# Altium footprint library 400236.PcbLib: 96 footprints (part 5 of 6)
Each footprint in its own frame and in the unit in brackets; x right, y up, seen from the top. Pads: shape width x height; smd on the part's side, far side on the other; paste and mask are expansions set on the pad; w line width, h text height; cw(c..) or ccw(c..) is an arc to the next point about the centre after c.
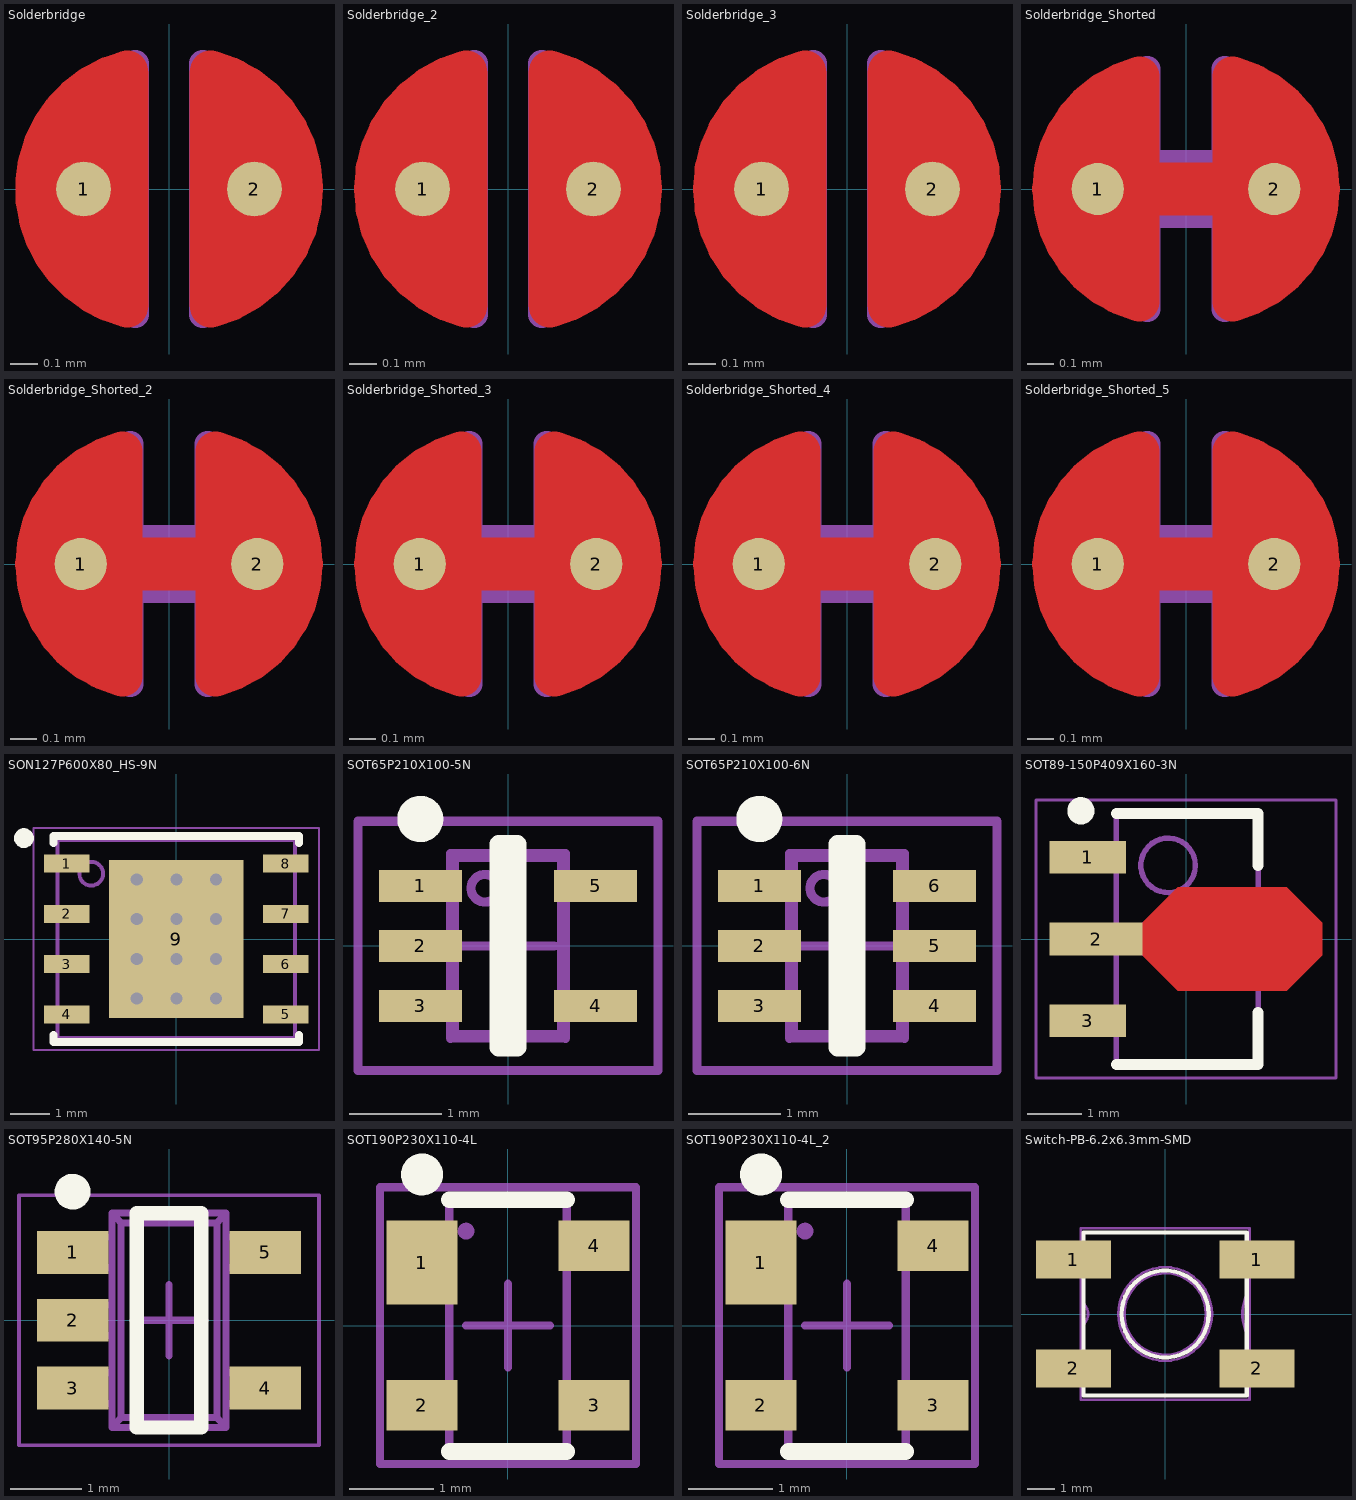
[diagram p4: the footprints below, top view; thin cyan lines are the x and y axes]

## Solderbridge [mm]
pads (2):
  round 0.2 smd paste-10: 1(-0.312,0) 2(0.312,0)
Top Layer:
  region: 0.077,0.432 0.152,0.505 0.271,0.467 0.335,0.424 0.409,0.351 0.462,0.292 0.521,0.193 0.549,0.099 0.544,-0.122 0.518,-0.193 0.434,-0.33 0.351,-0.411 0.259,-0.469 0.157,-0.5 0.107,-0.483 0.077,-0.43
  region: -0.077,-0.432 -0.152,-0.505 -0.271,-0.467 -0.335,-0.424 -0.409,-0.351 -0.462,-0.292 -0.521,-0.193 -0.549,-0.099 -0.544,0.122 -0.518,0.193 -0.434,0.33 -0.351,0.411 -0.259,0.469 -0.157,0.5 -0.107,0.483 -0.077,0.43
  lines w0.152: -0.153,-0.431 cw(c-0.042,0) -0.473,-0.112 cw(c-0.042,0) -0.153,0.431 ; 0.153,-0.431 ccw(c0.042,0) 0.482,-0.068 ccw(c0.042,0) 0.153,0.431
Top Solder:
  circle w0.61: c-0.003,0 r0.279
Mechanical 7:
  lines w0.1: -0.123,-0.459 cw(c-0.042,0) -0.123,0.459 -0.123,-0.459 ; 0.123,-0.459 ccw(c0.042,0) 0.123,0.459 0.123,-0.459
  text ".Designator" at -0.635,0.635 h0.38

## Solderbridge_2 [mm]
pads (2):
  round 0.2 smd paste-10: 1(-0.312,0) 2(0.312,0)
Top Layer:
  region: 0.077,0.432 0.152,0.505 0.271,0.467 0.335,0.424 0.409,0.351 0.462,0.292 0.521,0.193 0.549,0.099 0.544,-0.122 0.518,-0.193 0.434,-0.33 0.351,-0.411 0.259,-0.469 0.157,-0.5 0.107,-0.483 0.077,-0.43
  region: -0.077,-0.432 -0.152,-0.505 -0.271,-0.467 -0.335,-0.424 -0.409,-0.351 -0.462,-0.292 -0.521,-0.193 -0.549,-0.099 -0.544,0.122 -0.518,0.193 -0.434,0.33 -0.351,0.411 -0.259,0.469 -0.157,0.5 -0.107,0.483 -0.077,0.43
  lines w0.152: -0.153,-0.431 cw(c-0.042,0) -0.153,0.431 ; 0.153,-0.431 ccw(c0.042,0) 0.153,0.431
Top Solder:
  circle w0.61: c-0.003,0 r0.279
Mechanical 7:
  lines w0.1: -0.123,-0.459 cw(c-0.042,0) -0.123,0.459 -0.123,-0.459 ; 0.123,-0.459 ccw(c0.042,0) 0.123,0.459 0.123,-0.459
  text ".Designator" at -0.441,-0.89 h0.3

## Solderbridge_3 [mm]
pads (2):
  round 0.2 smd paste-10: 1(-0.312,0) 2(0.312,0)
Top Layer:
  region: 0.077,0.432 0.152,0.505 0.271,0.467 0.335,0.424 0.409,0.351 0.462,0.292 0.521,0.193 0.549,0.099 0.544,-0.122 0.518,-0.193 0.434,-0.33 0.351,-0.411 0.259,-0.469 0.157,-0.5 0.107,-0.483 0.077,-0.43
  region: -0.077,-0.432 -0.152,-0.505 -0.271,-0.467 -0.335,-0.424 -0.409,-0.351 -0.462,-0.292 -0.521,-0.193 -0.549,-0.099 -0.544,0.122 -0.518,0.193 -0.434,0.33 -0.351,0.411 -0.259,0.469 -0.157,0.5 -0.107,0.483 -0.077,0.43
  lines w0.152: -0.153,-0.431 cw(c-0.042,0) -0.153,0.431 ; 0.153,-0.431 ccw(c0.042,0) 0.153,0.431
Top Solder:
  circle w0.61: c-0.003,0 r0.279
Mechanical 7:
  lines w0.1: -0.123,-0.459 cw(c-0.042,0) -0.123,0.459 -0.123,-0.459 ; 0.123,-0.459 ccw(c0.042,0) 0.123,0.459 0.123,-0.459
  text ".Designator" at -0.467,0.634 h0.3

## Solderbridge_Shorted [mm]
pads (2):
  round 0.2 smd paste-10: 1(-0.338,0) 2(0.338,0)
Top Layer:
  region: -0.102,-0.432 -0.178,-0.505 -0.296,-0.467 -0.361,-0.424 -0.434,-0.351 -0.488,-0.292 -0.546,-0.193 -0.574,-0.099 -0.569,0.122 -0.544,0.193 -0.46,0.33 -0.376,0.411 -0.284,0.469 -0.183,0.5 -0.132,0.483 -0.102,0.43
  region: 0.102,0.432 0.178,0.505 0.296,0.467 0.361,0.424 0.434,0.351 0.488,0.292 0.546,0.193 0.574,0.099 0.569,-0.122 0.544,-0.193 0.46,-0.33 0.376,-0.411 0.284,-0.469 0.183,-0.5 0.132,-0.483 0.102,-0.43
  lines w0.152: -0.178,-0.431 cw(c-0.068,0) -0.178,0.431 ; 0.178,-0.431 ccw(c0.068,0) 0.178,0.431
  lines w0.203: -0.338,0 0.338,0
Top Solder:
  circle w0.61: c0.028,0 r0.279
  circle w0.61: c-0.028,0 r0.279
Mechanical 7:
  lines w0.1: -0.148,-0.459 cw(c-0.067,0) -0.148,0.459 -0.148,0.1 0.148,0.1 0.148,0.459 cw(c0.067,0) 0.148,-0.459 0.148,-0.1 -0.148,-0.1 -0.148,-0.459
  text ".Designator" at 0.635,-0.152 h0.3

## Solderbridge_Shorted_2 [mm]
pads (2):
  round 0.2 smd paste-10: 1(-0.338,0) 2(0.338,0)
Top Layer:
  region: -0.102,-0.432 -0.178,-0.505 -0.296,-0.467 -0.361,-0.424 -0.434,-0.351 -0.488,-0.292 -0.546,-0.193 -0.574,-0.099 -0.569,0.122 -0.544,0.193 -0.46,0.33 -0.376,0.411 -0.284,0.469 -0.183,0.5 -0.132,0.483 -0.102,0.43
  region: 0.102,0.432 0.178,0.505 0.296,0.467 0.361,0.424 0.434,0.351 0.488,0.292 0.546,0.193 0.574,0.099 0.569,-0.122 0.544,-0.193 0.46,-0.33 0.376,-0.411 0.284,-0.469 0.183,-0.5 0.132,-0.483 0.102,-0.43
  lines w0.152: -0.178,-0.431 cw(c-0.068,0) -0.178,0.431 ; 0.178,-0.431 ccw(c0.068,0) 0.178,0.431
  lines w0.203: -0.338,0 0.338,0
Top Solder:
  circle w0.61: c0.028,0 r0.279
  circle w0.61: c-0.028,0 r0.279
Mechanical 7:
  lines w0.1: -0.148,-0.459 cw(c-0.067,0) -0.148,0.459 -0.148,0.1 0.148,0.1 0.148,0.459 cw(c0.067,0) 0.148,-0.459 0.148,-0.1 -0.148,-0.1 -0.148,-0.459
  text ".Designator" at 0.559,-0.559 h0.3

## Solderbridge_Shorted_3 [mm]
pads (2):
  round 0.2 smd paste-10: 1(-0.338,0) 2(0.338,0)
Top Layer:
  region: -0.102,-0.432 -0.178,-0.505 -0.296,-0.467 -0.361,-0.424 -0.434,-0.351 -0.488,-0.292 -0.546,-0.193 -0.574,-0.099 -0.569,0.122 -0.544,0.193 -0.46,0.33 -0.376,0.411 -0.284,0.469 -0.183,0.5 -0.132,0.483 -0.102,0.43
  region: 0.102,0.432 0.178,0.505 0.296,0.467 0.361,0.424 0.434,0.351 0.488,0.292 0.546,0.193 0.574,0.099 0.569,-0.122 0.544,-0.193 0.46,-0.33 0.376,-0.411 0.284,-0.469 0.183,-0.5 0.132,-0.483 0.102,-0.43
  lines w0.152: -0.178,-0.431 cw(c-0.068,0) -0.178,0.431 ; 0.178,-0.431 ccw(c0.068,0) 0.178,0.431
  lines w0.203: -0.338,0 0.338,0
Top Solder:
  circle w0.61: c0.028,0 r0.279
  circle w0.61: c-0.028,0 r0.279
Mechanical 7:
  lines w0.1: -0.148,-0.459 cw(c-0.067,0) -0.148,0.459 -0.148,0.1 0.148,0.1 0.148,0.459 cw(c0.067,0) 0.148,-0.459 0.148,-0.1 -0.148,-0.1 -0.148,-0.459
  text ".Designator" at 0.381,-0.559 h0.3

## Solderbridge_Shorted_4 [mm]
pads (2):
  round 0.2 smd paste-10: 1(-0.338,0) 2(0.338,0)
Top Layer:
  region: -0.102,-0.432 -0.178,-0.505 -0.296,-0.467 -0.361,-0.424 -0.434,-0.351 -0.488,-0.292 -0.546,-0.193 -0.574,-0.099 -0.569,0.122 -0.544,0.193 -0.46,0.33 -0.376,0.411 -0.284,0.469 -0.183,0.5 -0.132,0.483 -0.102,0.43
  region: 0.102,0.432 0.178,0.505 0.296,0.467 0.361,0.424 0.434,0.351 0.488,0.292 0.546,0.193 0.574,0.099 0.569,-0.122 0.544,-0.193 0.46,-0.33 0.376,-0.411 0.284,-0.469 0.183,-0.5 0.132,-0.483 0.102,-0.43
  lines w0.152: -0.178,-0.431 cw(c-0.068,0) -0.512,0 cw(c-0.068,0) -0.178,0.431 ; 0.178,-0.431 ccw(c0.068,0) 0.178,0.431
  lines w0.203: -0.338,0 0.338,0
Top Solder:
  circle w0.61: c0.028,0 r0.279
  circle w0.61: c-0.028,0 r0.279
Mechanical 7:
  lines w0.1: -0.148,-0.459 cw(c-0.067,0) -0.148,0.459 -0.148,0.1 0.148,0.1 0.148,0.459 cw(c0.067,0) 0.148,-0.459 0.148,-0.1 -0.148,-0.1 -0.148,-0.459
  text ".Designator" at -0.635,0.635 h0.38

## Solderbridge_Shorted_5 [mm]
pads (2):
  round 0.2 smd paste-10: 1(-0.338,0) 2(0.338,0)
Top Layer:
  region: 0.102,0.432 0.178,0.505 0.296,0.467 0.361,0.424 0.434,0.351 0.488,0.292 0.546,0.193 0.574,0.099 0.569,-0.122 0.544,-0.193 0.46,-0.33 0.376,-0.411 0.284,-0.469 0.183,-0.5 0.132,-0.483 0.102,-0.43
  region: -0.102,-0.432 -0.178,-0.505 -0.296,-0.467 -0.361,-0.424 -0.434,-0.351 -0.488,-0.292 -0.546,-0.193 -0.574,-0.099 -0.569,0.122 -0.544,0.193 -0.46,0.33 -0.376,0.411 -0.284,0.469 -0.183,0.5 -0.132,0.483 -0.102,0.43
  lines w0.152: -0.178,-0.431 cw(c-0.068,0) -0.178,0.431 ; 0.178,-0.431 ccw(c0.068,0) 0.178,0.431
  lines w0.203: -0.338,0 0.338,0
Top Solder:
  circle w0.61: c-0.028,0 r0.279
  circle w0.61: c0.028,0 r0.279
Mechanical 7:
  lines w0.1: -0.148,-0.459 cw(c-0.067,0) -0.148,0.459 -0.148,0.1 0.148,0.1 0.148,0.459 cw(c0.067,0) 0.148,-0.459 0.148,-0.1 -0.148,-0.1 -0.148,-0.459
  text ".Designator" at -0.584,-0.889 h0.3

## SON127P600X80_HS-9N [mm]
pads (9):
  rect 1.15x0.45 smd: 1(-2.77,1.905) 2(-2.77,0.635) 3(-2.77,-0.635) 4(-2.77,-1.905) 5(2.77,-1.905) 6(2.77,-0.635) 7(2.77,0.635) 8(2.77,1.905)
  rect 3.4x4 smd paste-1.7: 9(0,0)
via -1,1.5 diameter 0.61 hole 0.305
via 0,1.5 diameter 0.61 hole 0.305
via 1,1.5 diameter 0.61 hole 0.305
via -1,0.5 diameter 0.61 hole 0.305
via 0,0.5 diameter 0.61 hole 0.305
via 1,0.5 diameter 0.61 hole 0.305
via -1,-0.5 diameter 0.61 hole 0.305
via 0,-0.5 diameter 0.61 hole 0.305
via 1,-0.5 diameter 0.61 hole 0.305
via -1,-1.5 diameter 0.61 hole 0.305
via 0,-1.5 diameter 0.61 hole 0.305
via 1,-1.5 diameter 0.61 hole 0.305
Top Overlay:
  circle w0.25: c-3.85,2.55 r0.125
  lines w0.2: -3.1,-2.43 -3.1,-2.6 3.1,-2.6 3.1,-2.43 ; -3.1,2.43 -3.1,2.6 3.1,2.6 3.1,2.43
Top Paste:
  rectangle: -1.595,0.765 -0.665,1.895
  rectangle: -1.595,-0.565 -0.665,0.565
  rectangle: -1.595,-1.895 -0.665,-0.765
  rectangle: -0.465,0.765 0.465,1.895
  rectangle: -0.465,-0.565 0.465,0.565
  rectangle: -0.465,-1.895 0.465,-0.765
  rectangle: 0.665,0.765 1.595,1.895
  rectangle: 0.665,-0.565 1.595,0.565
  rectangle: 0.665,-1.895 1.595,-0.765
Mechanical 7:
  circle w0.1: c-2.15,1.65 r0.3
  lines w0.1: -3,-2.5 -3,2.5 3,2.5 3,-2.5 -3,-2.5
  text ".Designator" at 0.262,0.13 h0.3
Mechanical 15:
  lines w0.05: -3.605,-2.8 -3.605,2.8 3.605,2.8 3.605,-2.8 -3.605,-2.8
  lines w0.1: -0.5,0 0.5,0 ; 0,-0.5 0,0.5
3D body "SON127P600X80_HS-9N.step": height 0.8, standoff 0, extent -3.051,-2.55 3.051,2.55

## SOT65P210X100-5N [mm]
pads (5):
  rect 0.9x0.35 smd: 1(-0.95,0.65) 2(-0.95,0) 3(-0.95,-0.65) 4(0.95,-0.65) 5(0.95,0.65)
Top Overlay:
  circle w0.25: c-0.95,1.375 r0.125
  lines w0.2: -0.1,-1.1 0.1,-1.1 0.1,1.1 -0.1,1.1 -0.1,-1.1
Mechanical 7:
  circle w0.1: c-0.25,0.625 r0.15
  lines w0.1: -1.048,-0.748 -1.048,-0.545 ; -1.048,-0.101 -1.048,0.103 ; -1.048,0.547 -1.048,0.75 ; -0.862,-0.76 -0.862,-0.532 ; -0.862,-0.113 -0.862,0.115 ; -0.862,0.534 -0.862,0.762 ; -0.624,-0.999 -0.624,-0.998 ; -0.624,-0.76 -0.624,-0.998 ; -0.624,-0.532 -0.624,-0.113 ; -0.624,0.115 -0.624,0.534 ; -0.624,0.762 -0.624,1 0.624,1 0.624,0.762 ; 0.624,-0.999 0.624,-0.998 ; 0.624,-0.76 0.624,-0.998 ; 0.624,-0.532 0.624,0.534 ; 0.862,-0.76 0.862,-0.532 ; 0.862,0.534 0.862,0.762 ; 1.048,-0.748 1.048,-0.545 ; 1.048,0.547 1.048,0.75 ; -0.624,-0.998 0.624,-0.998 ; -1.048,-0.76 -1.048,-0.532 -0.611,-0.532 -0.611,-0.76 -1.048,-0.76 ; -1.048,-0.113 -0.611,-0.113 -0.611,0.115 -1.048,0.115 -1.048,-0.113 ; -1.048,0.534 -1.048,0.762 -0.611,0.762 -0.611,0.534 -1.048,0.534 ; -0.582,-0.96 0.582,-0.96 0.582,0.961 -0.582,0.961 -0.582,-0.96 ; 0.611,-0.76 1.048,-0.76 1.048,-0.532 0.611,-0.532 0.611,-0.76 ; 0.611,0.534 1.048,0.534 1.048,0.762 0.611,0.762 0.611,0.534
Mechanical 15:
  lines w0.1: -0.5,0 0.5,0 ; 0,-0.5 0,0.5 ; -1.625,-1.35 -1.625,1.35 1.625,1.35 1.625,-1.35 -1.625,-1.35
3D body "User Library-SC70-5.STEP": height 0.97, standoff 0, extent -1.1,-1 1.1,1

## SOT65P210X100-6N [mm]
pads (6):
  rect 0.9x0.35 smd: 1(-0.95,0.65) 2(-0.95,0) 3(-0.95,-0.65) 4(0.95,-0.65) 5(0.95,0) 6(0.95,0.65)
Top Overlay:
  circle w0.25: c-0.95,1.375 r0.125
  lines w0.2: -0.1,-1.1 0.1,-1.1 0.1,1.1 -0.1,1.1 -0.1,-1.1
Mechanical 7:
  circle w0.1: c-0.25,0.625 r0.15
  lines w0.1: -1.048,-0.748 -1.048,-0.545 ; -1.048,-0.101 -1.048,0.103 ; -1.048,0.547 -1.048,0.75 ; -0.862,-0.76 -0.862,-0.532 ; -0.862,-0.113 -0.862,0.115 ; -0.862,0.534 -0.862,0.762 ; -0.624,-0.999 -0.624,-0.998 ; -0.624,-0.76 -0.624,-0.998 ; -0.624,-0.532 -0.624,-0.113 ; -0.624,0.115 -0.624,0.534 ; -0.624,0.762 -0.624,1 0.624,1 0.624,0.762 ; 0.624,-0.999 0.624,-0.998 ; 0.624,-0.76 0.624,-0.998 ; 0.624,-0.532 0.624,-0.113 ; 0.624,0.115 0.624,0.534 ; 0.862,-0.76 0.862,-0.532 ; 0.862,-0.113 0.862,0.115 ; 0.862,0.534 0.862,0.762 ; 1.048,-0.748 1.048,-0.545 ; 1.048,-0.101 1.048,0.103 ; 1.048,0.547 1.048,0.75 ; -0.624,-0.998 0.624,-0.998 ; -1.048,-0.76 -0.611,-0.76 -0.611,-0.532 -1.048,-0.532 -1.048,-0.76 ; -1.048,-0.113 -1.048,0.115 -0.611,0.115 -0.611,-0.113 -1.048,-0.113 ; -1.048,0.534 -0.611,0.534 -0.611,0.762 -1.048,0.762 -1.048,0.534 ; -0.582,-0.96 -0.582,0.961 0.582,0.961 0.582,-0.96 -0.582,-0.96 ; 0.611,-0.76 0.611,-0.532 1.048,-0.532 1.048,-0.76 0.611,-0.76 ; 0.611,-0.113 1.048,-0.113 1.048,0.115 0.611,0.115 0.611,-0.113 ; 0.611,0.534 0.611,0.762 1.048,0.762 1.048,0.534 0.611,0.534
  text ".Designator" at 0.4,-0.55 h0.38
Mechanical 15:
  lines w0.1: -0.5,0 0.5,0 ; 0,-0.5 0,0.5 ; -1.625,-1.35 -1.625,1.35 1.625,1.35 1.625,-1.35 -1.625,-1.35
3D body "SW3dPS-SC70-6.STEP": height 0.92, standoff -0.03, extent -1.05,-1 1.05,1

## SOT89-150P409X160-3N [mm]
pads (3):
  rect 1.4x0.6 smd: 1(-1.8,1.5) 3(-1.8,-1.5)
  rect 1.7x0.6 smd: 2(-1.65,0)
Top Layer:
  region: -0.8,0.3 -0.15,0.95 1.85,0.95 2.5,0.3 2.5,-0.3 1.85,-0.95 -0.15,-0.95 -0.8,-0.3
Top Overlay:
  circle w0.25: c-1.928,2.35 r0.125
  lines w0.2: -1.278,-2.3 1.322,-2.3 1.322,-1.35 ; -1.278,2.3 1.322,2.3 1.322,1.35
Mechanical 7:
  circle w0.1: c-0.327,1.35 r0.5
  lines w0.1: -1.278,-2.3 -1.278,2.3 1.322,2.3 1.322,-2.3 -1.278,-2.3
  text ".Designator" at -0.432,-0.203 h0.3
Mechanical 15:
  lines w0.05: -2.75,-2.55 -2.75,2.55 2.75,2.55 2.75,-2.55 -2.75,-2.55
  lines w0.1: -0.478,0 0.522,0 ; 0.022,-0.5 0.022,0.5
3D body "SOT89-150P409X160-3N.step": height 1.6, standoff 0, extent -2.2,-2.297 1.93,2.297

## SOT95P280X140-5N [mm]
pads (5):
  rect 1x0.6 smd: 1(-1.35,0.95) 2(-1.35,0) 3(-1.35,-0.95) 4(1.35,-0.95) 5(1.35,0.95)
Top Overlay:
  circle w0.25: c-1.35,1.8 r0.125
  lines w0.2: -0.45,-1.5 0.45,-1.5 0.45,1.5 -0.45,1.5 -0.45,-1.5
Mechanical 7:
  lines w0.1: -1.138,-1.164 -1.138,-0.736 ; -1.138,-0.214 -1.138,0.214 ; -1.138,0.736 -1.138,1.164 ; -0.974,-1.164 -0.974,-0.736 ; -0.974,-0.214 -0.974,0.214 ; -0.974,0.736 -0.974,1.164 ; -0.798,-1.164 -1.49,-1.164 -1.49,-0.736 -0.798,-0.736 ; -0.798,-0.214 -1.49,-0.214 -1.49,0.214 -0.798,0.214 ; -0.798,0.736 -1.49,0.736 -1.49,1.164 -0.798,1.164 ; 0.798,-1.164 1.49,-1.164 1.49,-0.736 0.798,-0.736 ; 0.798,0.736 1.49,0.736 1.49,1.164 0.798,1.164 ; 0.974,-1.164 0.974,-0.736 ; 0.974,0.736 0.974,1.164 ; 1.138,-1.164 1.138,-0.736 ; 1.138,0.736 1.138,1.164 ; -0.798,-1.5 0.798,-1.5 ; -0.798,-1.5 -0.798,1.5 ; -0.798,-1.5 -0.67,-1.361 ; -0.798,1.5 0.798,1.5 ; -0.798,1.5 -0.67,1.361 ; -0.67,-1.361 0.67,-1.361 ; -0.67,-1.361 -0.67,1.361 ; -0.67,1.361 0.67,1.361 ; 0.67,-1.361 0.67,1.361 ; 0.67,-1.361 0.798,-1.5 ; 0.67,1.361 0.798,1.5 ; 0.798,-1.5 0.798,1.5
  text ".Designator" at 0.125,-0.775 h0.38
Mechanical 15:
  lines w0.05: -2.1,-1.75 2.1,-1.75 2.1,1.75 -2.1,1.75 -2.1,-1.75
  lines w0.1: -0.5,0 0.5,0 ; 0,-0.5 0,0.5
3D body "SOT95P275X140-5N.step": height 1.4, standoff 0, extent -1.5,-1.55 1.5,1.55

## SOT190P230X110-4L [mm]
pads (4):
  rect 0.85x1 smd: 1(-1.025,0.75)
  rect 0.85x0.6 smd: 2(-1.025,-0.95) 3(1.025,-0.95) 4(1.025,0.95)
Top Overlay:
  circle w0.25: c-1.025,1.8 r0.125
  lines w0.2: -0.7,-1.5 0.7,-1.5 ; -0.7,1.5 0.7,1.5
Mechanical 7:
  circle w0.1: c-0.5,1.125 r0.05
  lines w0.1: -0.7,-1.5 0.7,-1.5 0.7,1.5 -0.7,1.5 -0.7,-1.5
  text ".Designator" at 0.127,-0.396 h0.3
Mechanical 15:
  lines w0.1: -0.5,0 0.5,0 ; 0,-0.5 0,0.5 ; -1.525,-1.65 1.525,-1.65 1.525,1.65 -1.525,1.65 -1.525,-1.65
3D body "User Library-sot143.step": height 1, standoff 0, extent -1.21,-1.46 1.21,1.46

## SOT190P230X110-4L_2 [mm]
pads (4):
  rect 0.85x1 smd: 1(-1.025,0.75)
  rect 0.85x0.6 smd: 2(-1.025,-0.95) 3(1.025,-0.95) 4(1.025,0.95)
Top Overlay:
  circle w0.25: c-1.025,1.8 r0.125
  lines w0.2: -0.7,-1.5 0.7,-1.5 ; -0.7,1.5 0.7,1.5
Mechanical 7:
  circle w0.1: c-0.5,1.125 r0.05
  lines w0.1: -0.7,-1.5 0.7,-1.5 0.7,1.5 -0.7,1.5 -0.7,-1.5
  text ".Designator" at 0.184,-0.358 h0.3
Mechanical 15:
  lines w0.1: -0.5,0 0.5,0 ; 0,-0.5 0,0.5 ; -1.525,-1.65 1.525,-1.65 1.525,1.65 -1.525,1.65 -1.525,-1.65
3D body "User Library-sot143.step": height 1, standoff 0, extent -1.21,-1.46 1.21,1.46

## Switch-PB-6.2x6.3mm-SMD [mm]
pads (4):
  rect 2.75x1.4 smd: 1(-3.375,2) 1(3.375,2) 2(-3.375,-2) 2(3.375,-2)
Top Overlay:
  circle w0.152: c0,0 r1.601
  lines w0.152: -3,-3 -3,3 3,3 3,-3 -3,-3
Mechanical 7:
  circle w0.1: c0,0 r1.721
  circle w0.1: c0,0 r1.5
  lines w0.1: -3.3,-2.393 -3.3,-1.606 ; -3.3,1.606 -3.3,2.393 ; -3.1,-2.393 -3.6,-2.393 -3.6,-1.606 -3.1,-1.606 ; -3.1,-0.441 ccw(c-3.335,0) -3.1,0.441 ; -3.1,1.606 -3.6,1.606 -3.6,2.393 -3.1,2.393 ; 3.1,-2.393 3.6,-2.393 3.6,-1.606 3.1,-1.606 ; 3.1,-0.91 cw(c4.561,0) 3.1,0.91 ; 3.1,1.606 3.6,1.606 3.6,2.393 3.1,2.393 ; 3.3,-2.393 3.3,-1.606 ; 3.3,1.606 3.3,2.393 ; -3.1,-3.15 -3.1,3.15 3.1,3.15 3.1,-3.15 -3.1,-3.15
  text ".Designator" at 0.363,0.129 h0.3
3D body "Switch tact 6x6mm.stp": height 3.1, standoff 0, extent -4,-3 4,3.3